# Altium integrated library TI Power Management Linear Regulator Single Channel LDO (400-7500mA).IntLib: 1408 symbols (part 14 of 60)
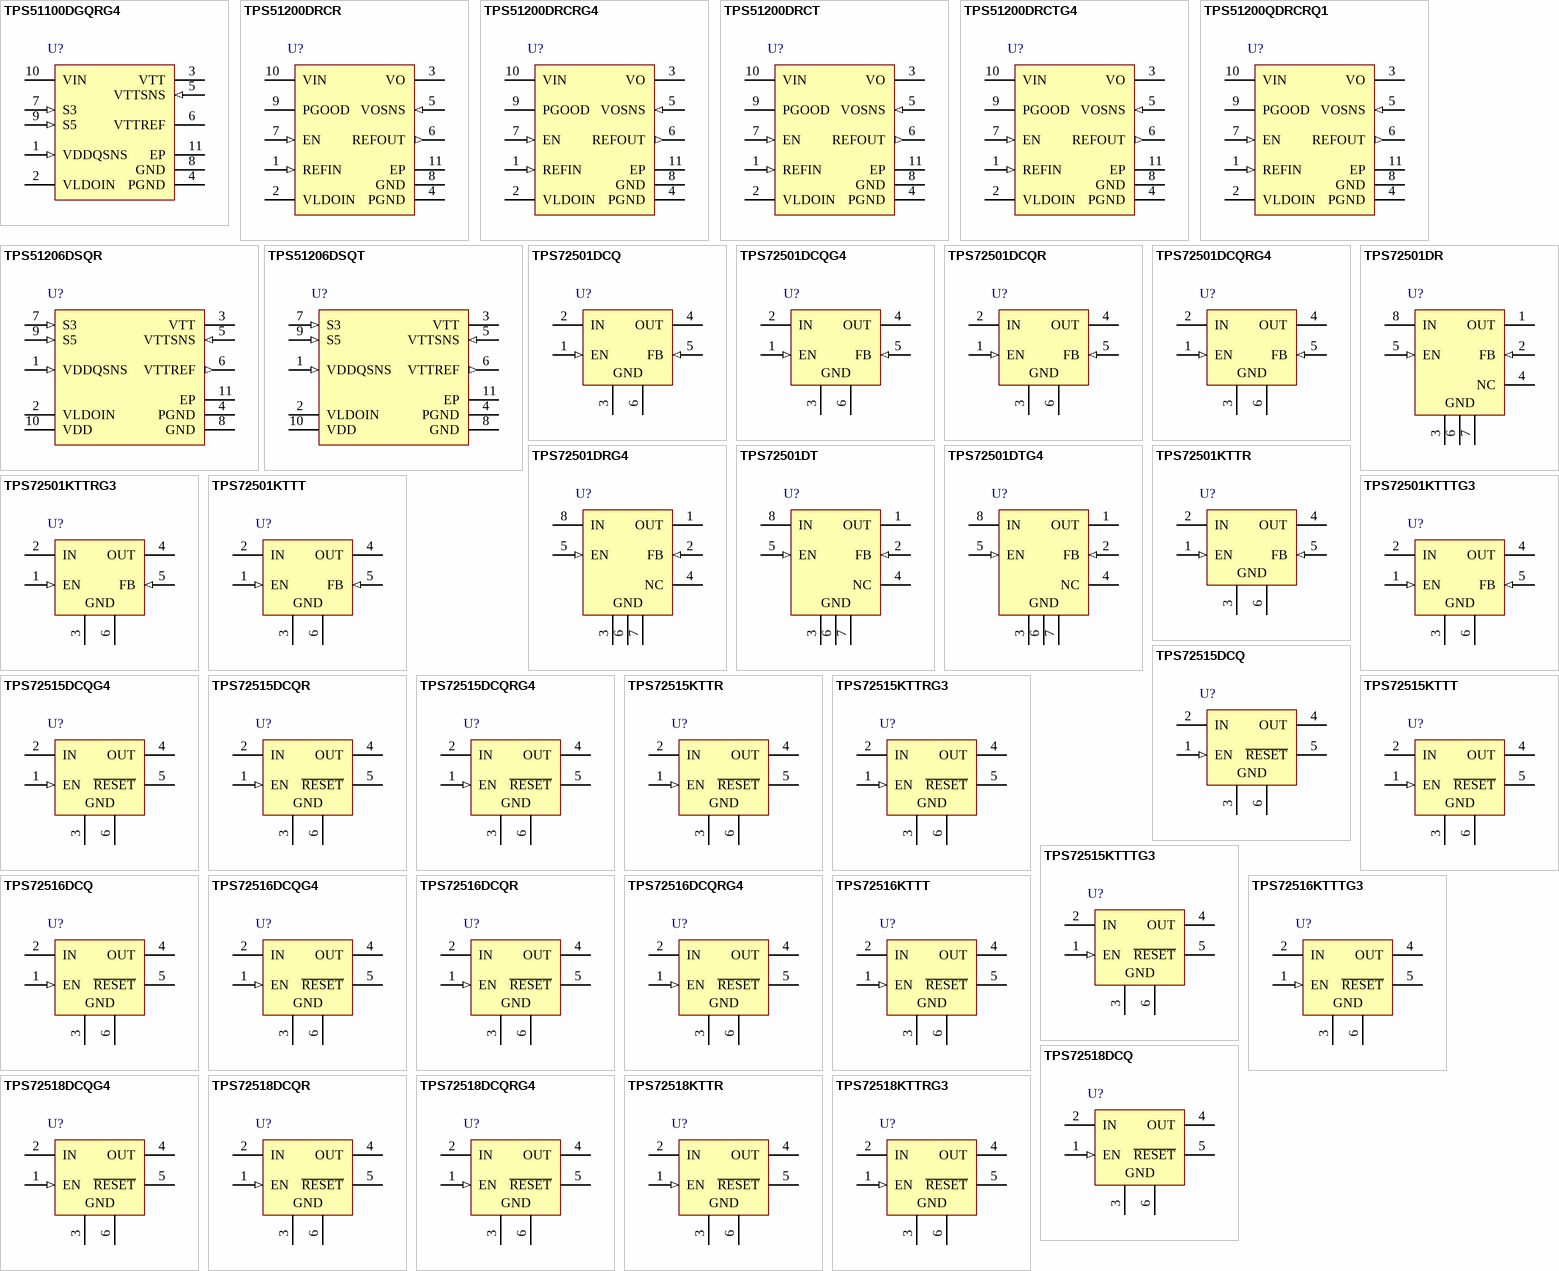
[diagram p63: symbols TPS51100DGQRG4 to TPS72518KTTRG3]

## TPS51200DRCTG4
designator U?
Single Output LDO, 3 A, 2.375 to 3.5 V Input, with DDR Termination, 10-pin SON (DRC), -40 to 85 degC, Green (RoHS & no Sb/Br); Manufacturer: Texas Instruments; PartNumber: TPS51200DRCTG4; Iout(Max)(A): 3; Iq(Typ)(mA): 0.5; Power Good: TRUE; Rating: Catalog; SubFamily: Single Channel LDO; Vin(Max)(V): 3.5; Vin(Min)(V): 2.3; DatasheetVersion: SLUS812; PackageVersion: 4204102-3/L; PackageReference: DRC10-2400X1650TP; PackageDescription: 10-Pin Plastic Small Outline, Body 3 x 3 mm, Pitch 0.5 mm; Supplier 1: Digi-Key; Supplier Part Number 1: TPS51200DRCTG4-ND; Supplier 2: Newark; Supplier Part Number 2: 03P5192; Supplier 3: Mouser; Supplier Part Number 3: 595-TPS51200DRCTG4; Eco-Plan: Green (RoHS & no Sb/Br); Mounting Technology: Surface Mount; ComponentLink1Description: Manufacturer URL; ComponentLink1URL: http://www.ti.com/; ComponentLink2Description: Datasheet; ComponentLink2URL: http://www.ti.com/general/docs/lit/getliterature.tsp?genericPartNumber=TPS51200&fileType=pdf; ComponentLink3Description: Package Specification; ComponentLink3URL: http://www.ti.com/litv/pdf/mpds117k; ComponentLink4Description: URL Link1; ComponentLink4URL: Samples URL:http://www.ti.com/product/tps51200#samples
footprint TI-DRC10-2400X1650TP_V (SON, 10-Leads, Body 3x3mm, Pitch 0.5mm, Thermal Pad 3x1.65mm)
pins: 1 REFIN (in) "Reference input", 2 VLDOIN (power) "Supply voltage for the LDO", 3 VO (power) "Power output for the LDO", 4 PGND (power) "Power ground output for the LDO", 5 VOSNS (in) "Voltage sense output for the LDO. Connect to positive terminal of the output capacitor or the load.", 6 REFOUT (out) "Reference output. Connect to GND through 0.1-uF ceramic capacitor.", 7 EN (in) "For DDR VTT application, connect EN to SLP_S3. For any other application(s), use EN as the ON/OFF function.", 8 GND (power) "Ground.Signal ground. Connect to negative terminal of the output capacitor.", 9 PGOOD (oc) "PGOOD output. Indicates regulation.", 10 VIN (power) "2.5-V or 3.3-V power supply A ceramic decoupling capacitor with a value between 1-uF and 4.7-uF is required.", 11 EP (power) "Exposed thermal pad"

## TPS51200QDRCRQ1
designator U?
Single Output Automotive LDO, 3 A, 2.3 to 3.5 V Input, with DDR Termination, 10-pin SON (DRC), -40 to 125 degC, Green (RoHS & no Sb/Br); Manufacturer: Texas Instruments; PartNumber: TPS51200QDRCRQ1; Iout(Max)(A): 3; Iq(Typ)(mA): 0.5; Power Good: TRUE; SubFamily: Single Channel LDO; Vin(Max)(V): 3.5; Vin(Min)(V): 2.3; DatasheetVersion: SLUS984A; PackageVersion: 4204102-3/L; PackageReference: DRC10-2400X1650TP; PackageDescription: 10-Pin Plastic Small Outline, Body 3 x 3 mm, Pitch 0.5 mm; Supplier 1: Digi-Key; Supplier Part Number 1: 296-25411-2-ND; Supplier 2: Digi-Key; Supplier Part Number 2: 296-25411-1-ND; Supplier 3: Digi-Key; Supplier Part Number 3: 296-25411-6-ND; Supplier 4: Farnell; Supplier Part Number 4: 2127110; Supplier 5: Newark; Supplier Part Number 5: 94T5095; Supplier 6: Newark; Supplier Part Number 6: 55R7572; Supplier 7: Mouser; Supplier Part Number 7: 595-TPS51200QDRCRQ1; Eco-Plan: Green (RoHS & no Sb/Br); Rating: Automotive; Mounting Technology: Surface Mount; ComponentLink1Description: Manufacturer URL; ComponentLink1URL: http://www.ti.com/; ComponentLink2Description: Datasheet; ComponentLink2URL: http://www.ti.com/general/docs/lit/getliterature.tsp?genericPartNumber=TPS51200-Q1&fileType=pdf; ComponentLink3Description: Package Specification; ComponentLink3URL: http://www.ti.com/litv/pdf/mpds117k; ComponentLink4Description: URL Link1; ComponentLink4URL: Samples URL:http://www.ti.com/product/tps51200-q1#samples
footprint TI-DRC10-2400X1650TP_V (SON, 10-Leads, Body 3x3mm, Pitch 0.5mm, Thermal Pad 3x1.65mm)
pins: 1 REFIN (in) "Reference input", 2 VLDOIN (power) "Supply voltage for the LDO", 3 VO (power) "Power output for the LDO", 4 PGND (power) "Power ground output for the LDO", 5 VOSNS (in) "Voltage sense output for the LDO. Connect to positive terminal of the output capacitor or the load.", 6 REFOUT (out) "Reference output. Connect to GND through 0.1-uF ceramic capacitor.", 7 EN (in) "For DDR VTT application, connect EN to SLP_S3. For any other application(s), use EN as the ON/OFF function.", 8 GND (power) "Ground.Signal ground. Connect to negative terminal of the output capacitor.", 9 PGOOD (hiz) "PGOOD output. Indicates regulation.", 10 VIN (power) "2.5-V or 3.3-V power supply A ceramic decoupling capacitor with a value between 1-uF and 4.7-uF is required.", 11 EP (power) "Exposed thermal pad"

## TPS51206DSQR
designator U?
Single Output LDO, 2 A, with VTTREF Buffered Reference for DDR2, DDR3, DDR3L, 10-pin SON (DSQ), -40 to 85 degC, Green (RoHS & no Sb/Br); Manufacturer: Texas Instruments; PartNumber: TPS51206DSQR; Iout(Max)(A): 2; Rating: Catalog; SubFamily: Single Channel LDO; DatasheetVersion: SLUSAH1; PackageVersion: 4209243/B; PackageReference: DSQ10-1500X900TP; PackageDescription: 10-Pin Plastic Small Outline, Body 2 X 2 mm, Pitch 0.4 mm; Supplier 1: Digi-Key; Supplier Part Number 1: 296-28767-2-ND; Supplier 2: Digi-Key; Supplier Part Number 2: 296-28767-1-ND; Supplier 3: Digi-Key; Supplier Part Number 3: 296-28767-6-ND; Supplier 4: Newark; Supplier Part Number 4: 48T4679; Supplier 5: Mouser; Supplier Part Number 5: 595-TPS51206DSQR; Eco-Plan: Green (RoHS & no Sb/Br); Mounting Technology: Surface Mount; ComponentLink1Description: Manufacturer URL; ComponentLink1URL: http://www.ti.com/; ComponentLink2Description: Datasheet; ComponentLink2URL: http://www.ti.com/general/docs/lit/getliterature.tsp?genericPartNumber=TPS51206&fileType=pdf; ComponentLink3Description: Package Specification; ComponentLink3URL: http://www.ti.com/litv/pdf/mpdi002c; ComponentLink4Description: URL Link1; ComponentLink4URL: Samples URL:http://www.ti.com/product/tps51206#samples
footprint TI-DSQ10-1500X900TP_V (SON, 10-Leads, Body 2x2mm, Pitch 0.4mm, Thermal Pad 1.5x0.9mm)
pins: 1 VDDQSNS (in) "VDDQ sense input, reference input for VTTREF", 2 VLDOIN (power) "Power supply input for VTT/ VTTREF", 3 VTT (power) "Power output for VTT LDO, need to connect 10-uF or greater MLCC for stability", 4 PGND (power) "Power GND for VTT LDO", 5 VTTSNS (in) "VTT LDO voltage sense input", 6 VTTREF (out) "VTTREF buffered reference output. Need to connect 0.22-uF or greater MLCC for stability", 7 S3 (in) "S3 signal input", 8 GND (power) "Signal ground", 9 S5 (in) "S5 signal input", 10 VDD (power) "Device power supply input (3.3 V or 5 V)", 11 EP (power) "Solder to the ground plane for increased thremal performance."

## TPS51206DSQT
designator U?
Single Output LDO, 2 A, with VTTREF Buffered Reference for DDR2, DDR3, DDR3L, 10-pin SON (DSQ), -40 to 85 degC, Green (RoHS & no Sb/Br); Manufacturer: Texas Instruments; PartNumber: TPS51206DSQT; Iout(Max)(A): 2; Rating: Catalog; SubFamily: Single Channel LDO; DatasheetVersion: SLUSAH1; PackageVersion: 4209243/B; PackageReference: DSQ10-1500X900TP; PackageDescription: 10-Pin Plastic Small Outline, Body 2 X 2 mm, Pitch 0.4 mm; Supplier 1: Digi-Key; Supplier Part Number 1: 296-32490-2-ND; Supplier 2: Digi-Key; Supplier Part Number 2: 296-32490-1-ND; Supplier 3: Digi-Key; Supplier Part Number 3: 296-32490-6-ND; Supplier 4: Newark; Supplier Part Number 4: 48T4680; Supplier 5: Mouser; Supplier Part Number 5: 595-TPS51206DSQT; Eco-Plan: Green (RoHS & no Sb/Br); Mounting Technology: Surface Mount; ComponentLink1Description: Manufacturer URL; ComponentLink1URL: http://www.ti.com/; ComponentLink2Description: Datasheet; ComponentLink2URL: http://www.ti.com/general/docs/lit/getliterature.tsp?genericPartNumber=TPS51206&fileType=pdf; ComponentLink3Description: Package Specification; ComponentLink3URL: http://www.ti.com/litv/pdf/mpdi002c; ComponentLink4Description: URL Link1; ComponentLink4URL: Samples URL:http://www.ti.com/product/tps51206#samples
footprint TI-DSQ10-1500X900TP_V (SON, 10-Leads, Body 2x2mm, Pitch 0.4mm, Thermal Pad 1.5x0.9mm)
pins: 1 VDDQSNS (in) "VDDQ sense input, reference input for VTTREF", 2 VLDOIN (power) "Power supply input for VTT/ VTTREF", 3 VTT (power) "Power output for VTT LDO, need to connect 10-uF or greater MLCC for stability", 4 PGND (power) "Power GND for VTT LDO", 5 VTTSNS (in) "VTT LDO voltage sense input", 6 VTTREF (out) "VTTREF buffered reference output. Need to connect 0.22-uF or greater MLCC for stability", 7 S3 (in) "S3 signal input", 8 GND (power) "Signal ground", 9 S5 (in) "S5 signal input", 10 VDD (power) "Device power supply input (3.3 V or 5 V)", 11 EP (power) "Solder to the ground plane for increased thremal performance."

## TPS72501DCQ
designator U?
Single Output Any Cap LDO, 1 A, Adjustable 1.2 to 5 V Output, 1.8 to 6 V Input, with Integrated SVS, 6-pin SOT-223 (DCQ), -40 to 125 degC, Green (RoHS & no Sb/Br); Manufacturer: Texas Instruments; PartNumber: TPS72501DCQ; Accuracy(%): 2; Iout(Max)(A): 1; Iq(Typ)(mA): 0.07; SubFamily: Single Channel LDO; Vdo(Typ)(mV): 170; Vin(Max)(V): 6; Vin(Min)(V): 1.8; Vout Adj(Max)(V): 5.5; Vout Adj(Min)(V): 1.22; DatasheetVersion: SLVS341E; PackageVersion: 4202109/D; PackageReference: DCQ6; PackageDescription: 6-Pin Plastic Small Outline, Body 3.5 x 6.5 mm, Pitch 1.27 mm; Supplier 1: Digi-Key; Supplier Part Number 1: 296-27050-5-ND; Supplier 2: Farnell; Supplier Part Number 2: 1470475; Supplier 3: Newark; Supplier Part Number 3: 75K1626; Supplier 4: Mouser; Supplier Part Number 4: 595-TPS72501DCQ; Eco-Plan: Green (RoHS & no Sb/Br); Mounting Technology: Surface Mount; ComponentLink1Description: Manufacturer URL; ComponentLink1URL: http://www.ti.com/; ComponentLink2Description: Datasheet; ComponentLink2URL: http://www.ti.com/general/docs/lit/getliterature.tsp?genericPartNumber=TPS72501&fileType=pdf; ComponentLink3Description: Package Specification; ComponentLink3URL: http://www.ti.com/litv/pdf/mpds098c
footprint TI-DCQ6_N (SOT223, 6-Leads, Body 6.5x3.5mm, Pitch 1.27mm, IPC Medium Density)
footprint TI-DCQ6_L (SOT223, 6-Leads, Body 6.5x3.5mm, Pitch 1.27mm, IPC High Density)
footprint TI-DCQ6_M (SOT223, 6-Leads, Body 6.5x3.5mm, Pitch 1.27mm, IPC Low Density)
pins: 1 EN (in) "The EN terminal is an input that enables or shuts down the device. When EN is a logic high, the device is enabled. When the device is a logic low, the device is in shutdown mode.", 2 IN (power) "Unregulated input to the device.", 3 GND (power) "Regulator ground", 4 OUT (power) "Regulator output", 5 FB (in) "Feedback input voltage for the adjustable device.", 6 GND (power) "Regulator ground"

## TPS72501DCQG4
designator U?
Single Output Any Cap LDO, 1 A, Adjustable 1.2 to 5 V Output, 1.8 to 6 V Input, with Integrated SVS, 6-pin SOT-223 (DCQ), -40 to 125 degC, Green (RoHS & no Sb/Br); Manufacturer: Texas Instruments; PartNumber: TPS72501DCQG4; Accuracy(%): 2; Iout(Max)(A): 1; Iq(Typ)(mA): 0.07; SubFamily: Single Channel LDO; Vdo(Typ)(mV): 170; Vin(Max)(V): 6; Vin(Min)(V): 1.8; Vout Adj(Max)(V): 5.5; Vout Adj(Min)(V): 1.22; DatasheetVersion: SLVS341E; PackageVersion: 4202109/D; PackageReference: DCQ6; PackageDescription: 6-Pin Plastic Small Outline, Body 3.5 x 6.5 mm, Pitch 1.27 mm; Supplier 1: Digi-Key; Supplier Part Number 1: TPS72501DCQG4-ND; Supplier 2: Farnell; Supplier Part Number 2: 1207338; Supplier 3: Newark; Supplier Part Number 3: 62M0767; Supplier 4: Mouser; Supplier Part Number 4: 595-TPS72501DCQG4; Eco-Plan: Green (RoHS & no Sb/Br); Mounting Technology: Surface Mount; ComponentLink1Description: Manufacturer URL; ComponentLink1URL: http://www.ti.com/; ComponentLink2Description: Datasheet; ComponentLink2URL: http://www.ti.com/general/docs/lit/getliterature.tsp?genericPartNumber=TPS72501&fileType=pdf; ComponentLink3Description: Package Specification; ComponentLink3URL: http://www.ti.com/litv/pdf/mpds098c
footprint TI-DCQ6_N (SOT223, 6-Leads, Body 6.5x3.5mm, Pitch 1.27mm, IPC Medium Density)
footprint TI-DCQ6_L (SOT223, 6-Leads, Body 6.5x3.5mm, Pitch 1.27mm, IPC High Density)
footprint TI-DCQ6_M (SOT223, 6-Leads, Body 6.5x3.5mm, Pitch 1.27mm, IPC Low Density)
pins: 1 EN (in) "The EN terminal is an input that enables or shuts down the device. When EN is a logic high, the device is enabled. When the device is a logic low, the device is in shutdown mode.", 2 IN (power) "Unregulated input to the device.", 3 GND (power) "Regulator ground", 4 OUT (power) "Regulator output", 5 FB (in) "Feedback input voltage for the adjustable device.", 6 GND (power) "Regulator ground"

## TPS72501DCQR
designator U?
Single Output Any Cap LDO, 1 A, Adjustable 1.2 to 5 V Output, 1.8 to 6 V Input, with Integrated SVS, 6-pin SOT-223 (DCQ), -40 to 125 degC, Green (RoHS & no Sb/Br); Manufacturer: Texas Instruments; PartNumber: TPS72501DCQR; Accuracy(%): 2; Iout(Max)(A): 1; Iq(Typ)(mA): 0.07; SubFamily: Single Channel LDO; Vdo(Typ)(mV): 170; Vin(Max)(V): 6; Vin(Min)(V): 1.8; Vout Adj(Max)(V): 5.5; Vout Adj(Min)(V): 1.22; DatasheetVersion: SLVS341E; PackageVersion: 4202109/D; PackageReference: DCQ6; PackageDescription: 6-Pin Plastic Small Outline, Body 3.5 x 6.5 mm, Pitch 1.27 mm; Supplier 1: Digi-Key; Supplier Part Number 1: 296-13524-2-ND; Supplier 2: Digi-Key; Supplier Part Number 2: 296-13524-1-ND; Supplier 3: Digi-Key; Supplier Part Number 3: 296-13524-6-ND; Supplier 4: Newark; Supplier Part Number 4: 77C0843; Supplier 5: Mouser; Supplier Part Number 5: 595-TPS72501DCQR; Eco-Plan: Green (RoHS & no Sb/Br); Mounting Technology: Surface Mount; ComponentLink1Description: Manufacturer URL; ComponentLink1URL: http://www.ti.com/; ComponentLink2Description: Datasheet; ComponentLink2URL: http://www.ti.com/general/docs/lit/getliterature.tsp?genericPartNumber=TPS72501&fileType=pdf; ComponentLink3Description: Package Specification; ComponentLink3URL: http://www.ti.com/litv/pdf/mpds098c
footprint TI-DCQ6_N (SOT223, 6-Leads, Body 6.5x3.5mm, Pitch 1.27mm, IPC Medium Density)
footprint TI-DCQ6_L (SOT223, 6-Leads, Body 6.5x3.5mm, Pitch 1.27mm, IPC High Density)
footprint TI-DCQ6_M (SOT223, 6-Leads, Body 6.5x3.5mm, Pitch 1.27mm, IPC Low Density)
pins: 1 EN (in) "The EN terminal is an input that enables or shuts down the device. When EN is a logic high, the device is enabled. When the device is a logic low, the device is in shutdown mode.", 2 IN (power) "Unregulated input to the device.", 3 GND (power) "Regulator ground", 4 OUT (power) "Regulator output", 5 FB (in) "Feedback input voltage for the adjustable device.", 6 GND (power) "Regulator ground"

## TPS72501DCQRG4
designator U?
Single Output Any Cap LDO, 1 A, Adjustable 1.2 to 5 V Output, 1.8 to 6 V Input, with Integrated SVS, 6-pin SOT-223 (DCQ), -40 to 125 degC, Green (RoHS & no Sb/Br); Manufacturer: Texas Instruments; PartNumber: TPS72501DCQRG4; Accuracy(%): 2; Iout(Max)(A): 1; Iq(Typ)(mA): 0.07; SubFamily: Single Channel LDO; Vdo(Typ)(mV): 170; Vin(Max)(V): 6; Vin(Min)(V): 1.8; Vout Adj(Max)(V): 5.5; Vout Adj(Min)(V): 1.22; DatasheetVersion: SLVS341E; PackageVersion: 4202109/D; PackageReference: DCQ6; PackageDescription: 6-Pin Plastic Small Outline, Body 3.5 x 6.5 mm, Pitch 1.27 mm; Supplier 1: Digi-Key; Supplier Part Number 1: TPS72501DCQRG4-ND; Supplier 2: Newark; Supplier Part Number 2: 67K8660; Supplier 3: Mouser; Supplier Part Number 3: 595-TPS72501DCQRG4; Eco-Plan: Green (RoHS & no Sb/Br); Mounting Technology: Surface Mount; ComponentLink1Description: Manufacturer URL; ComponentLink1URL: http://www.ti.com/; ComponentLink2Description: Datasheet; ComponentLink2URL: http://www.ti.com/general/docs/lit/getliterature.tsp?genericPartNumber=TPS72501&fileType=pdf; ComponentLink3Description: Package Specification; ComponentLink3URL: http://www.ti.com/litv/pdf/mpds098c
footprint TI-DCQ6_N (SOT223, 6-Leads, Body 6.5x3.5mm, Pitch 1.27mm, IPC Medium Density)
footprint TI-DCQ6_L (SOT223, 6-Leads, Body 6.5x3.5mm, Pitch 1.27mm, IPC High Density)
footprint TI-DCQ6_M (SOT223, 6-Leads, Body 6.5x3.5mm, Pitch 1.27mm, IPC Low Density)
pins: 1 EN (in) "The EN terminal is an input that enables or shuts down the device. When EN is a logic high, the device is enabled. When the device is a logic low, the device is in shutdown mode.", 2 IN (power) "Unregulated input to the device.", 3 GND (power) "Regulator ground", 4 OUT (power) "Regulator output", 5 FB (in) "Feedback input voltage for the adjustable device.", 6 GND (power) "Regulator ground"

## TPS72501DR
designator U?
Single Output Any Cap LDO, 1 A, Adjustable 1.2 to 5 V Output, 1.8 to 6 V Input, with Integrated SVS, 8-pin SOIC (D), -40 to 125 degC, Green (RoHS & no Sb/Br); Manufacturer: Texas Instruments; PartNumber: TPS72501DR; Accuracy(%): 2; Iout(Max)(A): 1; Iq(Typ)(mA): 0.07; SubFamily: Single Channel LDO; Vdo(Typ)(mV): 170; Vin(Max)(V): 6; Vin(Min)(V): 1.8; Vout Adj(Max)(V): 5.5; Vout Adj(Min)(V): 1.22; DatasheetVersion: SLVS341E; PackageVersion: 4040047-3/M; PackageReference: D8; PackageDescription: 8-Pin Plastic Small Outline, Body 4.9 x 3.9 mm, Pitch 1.27 mm; Supplier 1: Digi-Key; Supplier Part Number 1: TPS72501DR-ND; Supplier 2: Mouser; Supplier Part Number 2: 595-TPS72501DR; Eco-Plan: Green (RoHS & no Sb/Br); Mounting Technology: Surface Mount; Code_JEDEC: MS-012; ComponentLink1Description: Manufacturer URL; ComponentLink1URL: http://www.ti.com/; ComponentLink2Description: Datasheet; ComponentLink2URL: http://www.ti.com/general/docs/lit/getliterature.tsp?genericPartNumber=TPS72501&fileType=pdf; ComponentLink3Description: Package Specification; ComponentLink3URL: http://www.ti.com/litv/pdf/msoi002j
footprint TI-D8_N (SOIC, 8-Leads, Body 4.9x3.9mm, Pitch 1.27mm, IPC Medium Density)
footprint TI-D8_L (SOIC, 8-Leads, Body 4.9x3.9mm, Pitch 1.27mm, IPC High Density)
footprint TI-D8_M (SOIC, 8-Leads, Body 4.9x3.9mm, Pitch 1.27mm, IPC Low Density)
pins: 1 OUT (power) "Regulated output voltage", 2 FB (in) "Feedback", 3 GND (power) "Ground", 4 NC "No connection", 5 EN (in) "Enable input", 6 GND (power) "Ground", 7 GND (power) "Ground", 8 IN (power) "Input supply voltage"

## TPS72501DRG4
designator U?
Single Output Any Cap LDO, 1 A, Adjustable 1.2 to 5 V Output, 1.8 to 6 V Input, with Integrated SVS, 8-pin SOIC (D), -40 to 125 degC, Green (RoHS & no Sb/Br); Manufacturer: Texas Instruments; PartNumber: TPS72501DRG4; Accuracy(%): 2; Iout(Max)(A): 1; Iq(Typ)(mA): 0.07; SubFamily: Single Channel LDO; Vdo(Typ)(mV): 170; Vin(Max)(V): 6; Vin(Min)(V): 1.8; Vout Adj(Max)(V): 5.5; Vout Adj(Min)(V): 1.22; DatasheetVersion: SLVS341E; PackageVersion: 4040047-3/M; PackageReference: D8; PackageDescription: 8-Pin Plastic Small Outline, Body 4.9 x 3.9 mm, Pitch 1.27 mm; Supplier 1: Digi-Key; Supplier Part Number 1: TPS72501DRG4-ND; Supplier 2: Mouser; Supplier Part Number 2: 595-TPS72501DRG4; Eco-Plan: Green (RoHS & no Sb/Br); Mounting Technology: Surface Mount; Code_JEDEC: MS-012; ComponentLink1Description: Manufacturer URL; ComponentLink1URL: http://www.ti.com/; ComponentLink2Description: Datasheet; ComponentLink2URL: http://www.ti.com/general/docs/lit/getliterature.tsp?genericPartNumber=TPS72501&fileType=pdf; ComponentLink3Description: Package Specification; ComponentLink3URL: http://www.ti.com/litv/pdf/msoi002j
footprint TI-D8_N (SOIC, 8-Leads, Body 4.9x3.9mm, Pitch 1.27mm, IPC Medium Density)
footprint TI-D8_L (SOIC, 8-Leads, Body 4.9x3.9mm, Pitch 1.27mm, IPC High Density)
footprint TI-D8_M (SOIC, 8-Leads, Body 4.9x3.9mm, Pitch 1.27mm, IPC Low Density)
pins: 1 OUT (power) "Regulated output voltage", 2 FB (in) "Feedback", 3 GND (power) "Ground", 4 NC "No connection", 5 EN (in) "Enable input", 6 GND (power) "Ground", 7 GND (power) "Ground", 8 IN (power) "Input supply voltage"

## TPS72501DT
designator U?
Single Output Any Cap LDO, 1 A, Adjustable 1.2 to 5 V Output, 1.8 to 6 V Input, with Integrated SVS, 8-pin SOIC (D), -40 to 125 degC, Green (RoHS & no Sb/Br); Manufacturer: Texas Instruments; PartNumber: TPS72501DT; Accuracy(%): 2; Iout(Max)(A): 1; Iq(Typ)(mA): 0.07; SubFamily: Single Channel LDO; Vdo(Typ)(mV): 170; Vin(Max)(V): 6; Vin(Min)(V): 1.8; Vout Adj(Max)(V): 5.5; Vout Adj(Min)(V): 1.22; DatasheetVersion: SLVS341E; PackageVersion: 4040047-3/M; PackageReference: D8; PackageDescription: 8-Pin Plastic Small Outline, Body 4.9 x 3.9 mm, Pitch 1.27 mm; Supplier 1: Digi-Key; Supplier Part Number 1: 296-13805-2-ND; Supplier 2: Digi-Key; Supplier Part Number 2: 296-13805-1-ND; Supplier 3: Digi-Key; Supplier Part Number 3: 296-13805-6-ND; Supplier 4: Newark; Supplier Part Number 4: 02E7230; Supplier 5: Mouser; Supplier Part Number 5: 595-TPS72501DT; Eco-Plan: Green (RoHS & no Sb/Br); Mounting Technology: Surface Mount; Code_JEDEC: MS-012; ComponentLink1Description: Manufacturer URL; ComponentLink1URL: http://www.ti.com/; ComponentLink2Description: Datasheet; ComponentLink2URL: http://www.ti.com/general/docs/lit/getliterature.tsp?genericPartNumber=TPS72501&fileType=pdf; ComponentLink3Description: Package Specification; ComponentLink3URL: http://www.ti.com/litv/pdf/msoi002j
footprint TI-D8_N (SOIC, 8-Leads, Body 4.9x3.9mm, Pitch 1.27mm, IPC Medium Density)
footprint TI-D8_L (SOIC, 8-Leads, Body 4.9x3.9mm, Pitch 1.27mm, IPC High Density)
footprint TI-D8_M (SOIC, 8-Leads, Body 4.9x3.9mm, Pitch 1.27mm, IPC Low Density)
pins: 1 OUT (power) "Regulated output voltage", 2 FB (in) "Feedback", 3 GND (power) "Ground", 4 NC "No connection", 5 EN (in) "Enable input", 6 GND (power) "Ground", 7 GND (power) "Ground", 8 IN (power) "Input supply voltage"

## TPS72501DTG4
designator U?
Single Output Any Cap LDO, 1 A, Adjustable 1.2 to 5 V Output, 1.8 to 6 V Input, with Integrated SVS, 8-pin SOIC (D), -40 to 125 degC, Green (RoHS & no Sb/Br); Manufacturer: Texas Instruments; PartNumber: TPS72501DTG4; Accuracy(%): 2; Iout(Max)(A): 1; Iq(Typ)(mA): 0.07; SubFamily: Single Channel LDO; Vdo(Typ)(mV): 170; Vin(Max)(V): 6; Vin(Min)(V): 1.8; Vout Adj(Max)(V): 5.5; Vout Adj(Min)(V): 1.22; DatasheetVersion: SLVS341E; PackageVersion: 4040047-3/M; PackageReference: D8; PackageDescription: 8-Pin Plastic Small Outline, Body 4.9 x 3.9 mm, Pitch 1.27 mm; Supplier 1: Digi-Key; Supplier Part Number 1: TPS72501DTG4-ND; Supplier 2: Mouser; Supplier Part Number 2: 595-TPS72501DTG4; Eco-Plan: Green (RoHS & no Sb/Br); Mounting Technology: Surface Mount; Code_JEDEC: MS-012; ComponentLink1Description: Manufacturer URL; ComponentLink1URL: http://www.ti.com/; ComponentLink2Description: Datasheet; ComponentLink2URL: http://www.ti.com/general/docs/lit/getliterature.tsp?genericPartNumber=TPS72501&fileType=pdf; ComponentLink3Description: Package Specification; ComponentLink3URL: http://www.ti.com/litv/pdf/msoi002j
footprint TI-D8_N (SOIC, 8-Leads, Body 4.9x3.9mm, Pitch 1.27mm, IPC Medium Density)
footprint TI-D8_L (SOIC, 8-Leads, Body 4.9x3.9mm, Pitch 1.27mm, IPC High Density)
footprint TI-D8_M (SOIC, 8-Leads, Body 4.9x3.9mm, Pitch 1.27mm, IPC Low Density)
pins: 1 OUT (power) "Regulated output voltage", 2 FB (in) "Feedback", 3 GND (power) "Ground", 4 NC "No connection", 5 EN (in) "Enable input", 6 GND (power) "Ground", 7 GND (power) "Ground", 8 IN (power) "Input supply voltage"

## TPS72501KTTR
designator U?
Single Output Any Cap LDO, 1 A, Adjustable 1.2 to 5 V Output, 1.8 to 6 V Input, with Integrated SVS, 5-pin DDPAK (KTT), -40 to 125 degC, Green (RoHS & no Sb/Br); Manufacturer: Texas Instruments; PartNumber: TPS72501KTTR; Accuracy(%): 2; Iout(Max)(A): 1; Iq(Typ)(mA): 0.07; SubFamily: Single Channel LDO; Vdo(Typ)(mV): 170; Vin(Max)(V): 6; Vin(Min)(V): 1.8; Vout Adj(Max)(V): 5.5; Vout Adj(Min)(V): 1.22; DatasheetVersion: SLVS341E; PackageVersion: 4200577-3/F; PackageReference: KTT5; PackageDescription: 3-Pin Plastic Flange Mount, Body 10.16 x 10.34 mm, Pitch 1.7 mm; Supplier 1: Digi-Key; Supplier Part Number 1: 296-22877-2-ND; Supplier 2: Digi-Key; Supplier Part Number 2: 296-22877-1-ND; Supplier 3: Digi-Key; Supplier Part Number 3: 296-22877-6-ND; Supplier 4: Farnell; Supplier Part Number 4: 1576484; Supplier 5: Newark; Supplier Part Number 5: 87H2934; Supplier 6: Mouser; Supplier Part Number 6: 595-TPS72501KTTR; Eco-Plan: Green (RoHS & no Sb/Br); Mounting Technology: Surface Mount; Code_JEDEC: TO-263; ComponentLink1Description: Manufacturer URL; ComponentLink1URL: http://www.ti.com/; ComponentLink2Description: Datasheet; ComponentLink2URL: http://www.ti.com/general/docs/lit/getliterature.tsp?genericPartNumber=TPS72501&fileType=pdf; ComponentLink3Description: Package Specification; ComponentLink3URL: http://www.ti.com/litv/pdf/mpsf007e
footprint TI-KTT5_N (DPAK, 5-Leads, Body 10.16x8.925mm, Pitch 1.7mm, IPC Medium Density)
footprint TI-KTT5_L (DPAK, 5-Leads, Body 10.16x8.925mm, Pitch 1.7mm, IPC High Density)
footprint TI-KTT5_M (DPAK, 5-Leads, Body 10.16x8.925mm, Pitch 1.7mm, IPC Low Density)
pins: 1 EN (in) "The EN terminal is an input that enables or shuts down the device. When EN is a logic high, the device is enabled. When the device is a logic low, the device is in shutdown mode.", 2 IN (power) "Unregulated input to the device.", 3 GND (power) "Regulator ground", 4 OUT (power) "Regulator output", 5 FB (in) "Feedback input voltage for the adjustable device.", 6 GND (power) "Regulator ground"

## TPS72501KTTRG3
designator U?
Single Output Any Cap LDO, 1 A, Adjustable 1.2 to 5 V Output, 1.8 to 6 V Input, with Integrated SVS, 5-pin DDPAK (KTT), -40 to 125 degC, Green (RoHS & no Sb/Br); Manufacturer: Texas Instruments; PartNumber: TPS72501KTTRG3; Accuracy(%): 2; Iout(Max)(A): 1; Iq(Typ)(mA): 0.07; SubFamily: Single Channel LDO; Vdo(Typ)(mV): 170; Vin(Max)(V): 6; Vin(Min)(V): 1.8; Vout Adj(Max)(V): 5.5; Vout Adj(Min)(V): 1.22; DatasheetVersion: SLVS341E; PackageVersion: 4200577-3/F; PackageReference: KTT5; PackageDescription: 3-Pin Plastic Flange Mount, Body 10.16 x 10.34 mm, Pitch 1.7 mm; Supplier 1: Digi-Key; Supplier Part Number 1: TPS72501KTTRG3-ND; Supplier 2: Newark; Supplier Part Number 2: 24K6096; Supplier 3: Mouser; Supplier Part Number 3: 595-TPS72501KTTRG3; Eco-Plan: Green (RoHS & no Sb/Br); Mounting Technology: Surface Mount; Code_JEDEC: TO-263; ComponentLink1Description: Manufacturer URL; ComponentLink1URL: http://www.ti.com/; ComponentLink2Description: Datasheet; ComponentLink2URL: http://www.ti.com/general/docs/lit/getliterature.tsp?genericPartNumber=TPS72501&fileType=pdf; ComponentLink3Description: Package Specification; ComponentLink3URL: http://www.ti.com/litv/pdf/mpsf007e
footprint TI-KTT5_N (DPAK, 5-Leads, Body 10.16x8.925mm, Pitch 1.7mm, IPC Medium Density)
footprint TI-KTT5_L (DPAK, 5-Leads, Body 10.16x8.925mm, Pitch 1.7mm, IPC High Density)
footprint TI-KTT5_M (DPAK, 5-Leads, Body 10.16x8.925mm, Pitch 1.7mm, IPC Low Density)
pins: 1 EN (in) "The EN terminal is an input that enables or shuts down the device. When EN is a logic high, the device is enabled. When the device is a logic low, the device is in shutdown mode.", 2 IN (power) "Unregulated input to the device.", 3 GND (power) "Regulator ground", 4 OUT (power) "Regulator output", 5 FB (in) "Feedback input voltage for the adjustable device.", 6 GND (power) "Regulator ground"

## TPS72501KTTT
designator U?
Single Output Any Cap LDO, 1 A, Adjustable 1.2 to 5 V Output, 1.8 to 6 V Input, with Integrated SVS, 5-pin DDPAK (KTT), -40 to 125 degC, Green (RoHS & no Sb/Br); Manufacturer: Texas Instruments; PartNumber: TPS72501KTTT; Accuracy(%): 2; Iout(Max)(A): 1; Iq(Typ)(mA): 0.07; SubFamily: Single Channel LDO; Vdo(Typ)(mV): 170; Vin(Max)(V): 6; Vin(Min)(V): 1.8; Vout Adj(Max)(V): 5.5; Vout Adj(Min)(V): 1.22; DatasheetVersion: SLVS341E; PackageVersion: 4200577-3/F; PackageReference: KTT5; PackageDescription: 3-Pin Plastic Flange Mount, Body 10.16 x 10.34 mm, Pitch 1.7 mm; Supplier 1: Digi-Key; Supplier Part Number 1: 296-13525-2-ND; Supplier 2: Digi-Key; Supplier Part Number 2: 296-13525-1-ND; Supplier 3: Digi-Key; Supplier Part Number 3: 296-13525-6-ND; Supplier 4: Farnell; Supplier Part Number 4: 1135424; Supplier 5: Farnell; Supplier Part Number 5: 1135424RL; Supplier 6: Newark; Supplier Part Number 6: 93K0897; Supplier 7: Newark; Supplier Part Number 7: 77C0845; Supplier 8: Mouser; Supplier Part Number 8: 595-TPS72501KTTT; Eco-Plan: Green (RoHS & no Sb/Br); Mounting Technology: Surface Mount; Code_JEDEC: TO-263; ComponentLink1Description: Manufacturer URL; ComponentLink1URL: http://www.ti.com/; ComponentLink2Description: Datasheet; ComponentLink2URL: http://www.ti.com/general/docs/lit/getliterature.tsp?genericPartNumber=TPS72501&fileType=pdf; ComponentLink3Description: Package Specification; ComponentLink3URL: http://www.ti.com/litv/pdf/mpsf007e
footprint TI-KTT5_N (DPAK, 5-Leads, Body 10.16x8.925mm, Pitch 1.7mm, IPC Medium Density)
footprint TI-KTT5_L (DPAK, 5-Leads, Body 10.16x8.925mm, Pitch 1.7mm, IPC High Density)
footprint TI-KTT5_M (DPAK, 5-Leads, Body 10.16x8.925mm, Pitch 1.7mm, IPC Low Density)
pins: 1 EN (in) "The EN terminal is an input that enables or shuts down the device. When EN is a logic high, the device is enabled. When the device is a logic low, the device is in shutdown mode.", 2 IN (power) "Unregulated input to the device.", 3 GND (power) "Regulator ground", 4 OUT (power) "Regulator output", 5 FB (in) "Feedback input voltage for the adjustable device.", 6 GND (power) "Regulator ground"

## TPS72501KTTTG3
designator U?
Single Output Any Cap LDO, 1 A, Adjustable 1.2 to 5 V Output, 1.8 to 6 V Input, with Integrated SVS, 5-pin DDPAK (KTT), -40 to 125 degC, Green (RoHS & no Sb/Br); Manufacturer: Texas Instruments; PartNumber: TPS72501KTTTG3; Accuracy(%): 2; Iout(Max)(A): 1; Iq(Typ)(mA): 0.07; SubFamily: Single Channel LDO; Vdo(Typ)(mV): 170; Vin(Max)(V): 6; Vin(Min)(V): 1.8; Vout Adj(Max)(V): 5.5; Vout Adj(Min)(V): 1.22; DatasheetVersion: SLVS341E; PackageVersion: 4200577-3/F; PackageReference: KTT5; PackageDescription: 3-Pin Plastic Flange Mount, Body 10.16 x 10.34 mm, Pitch 1.7 mm; Supplier 1: Digi-Key; Supplier Part Number 1: TPS72501KTTTG3-ND; Supplier 2: Newark; Supplier Part Number 2: 34M0214; Supplier 3: Mouser; Supplier Part Number 3: 595-TPS72501KTTTG3; Eco-Plan: Green (RoHS & no Sb/Br); Mounting Technology: Surface Mount; Code_JEDEC: TO-263; ComponentLink1Description: Manufacturer URL; ComponentLink1URL: http://www.ti.com/; ComponentLink2Description: Datasheet; ComponentLink2URL: http://www.ti.com/general/docs/lit/getliterature.tsp?genericPartNumber=TPS72501&fileType=pdf; ComponentLink3Description: Package Specification; ComponentLink3URL: http://www.ti.com/litv/pdf/mpsf007e
footprint TI-KTT5_N (DPAK, 5-Leads, Body 10.16x8.925mm, Pitch 1.7mm, IPC Medium Density)
footprint TI-KTT5_L (DPAK, 5-Leads, Body 10.16x8.925mm, Pitch 1.7mm, IPC High Density)
footprint TI-KTT5_M (DPAK, 5-Leads, Body 10.16x8.925mm, Pitch 1.7mm, IPC Low Density)
pins: 1 EN (in) "The EN terminal is an input that enables or shuts down the device. When EN is a logic high, the device is enabled. When the device is a logic low, the device is in shutdown mode.", 2 IN (power) "Unregulated input to the device.", 3 GND (power) "Regulator ground", 4 OUT (power) "Regulator output", 5 FB (in) "Feedback input voltage for the adjustable device.", 6 GND (power) "Regulator ground"

## TPS72515DCQ
designator U?
Single Output Any Cap LDO, 1 A, Fixed 1.5 V Output, 1.8 to 6 V Input, with Integrated SVS, 6-pin SOT-223 (DCQ), -40 to 125 degC, Green (RoHS & no Sb/Br); Manufacturer: Texas Instruments; PartNumber: TPS72515DCQ; Accuracy(%): 2; Fixed Output Options(V): 1.5; Iout(Max)(A): 1; Iq(Typ)(mA): 0.07; SubFamily: Single Channel LDO; Vdo(Typ)(mV): 170; Vin(Max)(V): 6; Vin(Min)(V): 1.8; DatasheetVersion: SLVS341E; PackageVersion: 4202109/D; PackageReference: DCQ6; PackageDescription: 6-Pin Plastic Small Outline, Body 3.5 x 6.5 mm, Pitch 1.27 mm; Supplier 1: Digi-Key; Supplier Part Number 1: 296-27051-5-ND; Supplier 2: Newark; Supplier Part Number 2: 77C0846; Supplier 3: Mouser; Supplier Part Number 3: 595-TPS72515DCQ; Eco-Plan: Green (RoHS & no Sb/Br); Vout Adj(Max)(V): 1.5; Vout Adj(Min)(V): 1.5; Mounting Technology: Surface Mount; ComponentLink1Description: Manufacturer URL; ComponentLink1URL: http://www.ti.com/; ComponentLink2Description: Datasheet; ComponentLink2URL: http://www.ti.com/general/docs/lit/getliterature.tsp?genericPartNumber=TPS72515&fileType=pdf; ComponentLink3Description: Package Specification; ComponentLink3URL: http://www.ti.com/litv/pdf/mpds098c
footprint TI-DCQ6_N (SOT223, 6-Leads, Body 6.5x3.5mm, Pitch 1.27mm, IPC Medium Density)
footprint TI-DCQ6_L (SOT223, 6-Leads, Body 6.5x3.5mm, Pitch 1.27mm, IPC High Density)
footprint TI-DCQ6_M (SOT223, 6-Leads, Body 6.5x3.5mm, Pitch 1.27mm, IPC Low Density)
pins: 1 EN (in) "Enable input", 2 IN (power) "Input supply voltage", 3 GND (power) "Ground", 4 OUT (power) "Regulated output voltage", 5 ~{RESET} (oc) "This terminal is the R\E\S\E\T\ output. When used with a pull-up resistor, this open-drain output provides the active low R\E\S\E\T\ signal when the regulator output voltage drops more than 5% below its nominal output (See Datasheet)", 6 GND (power) "Exposed Thermal Tab"

## TPS72515DCQG4
designator U?
Single Output Any Cap LDO, 1 A, Fixed 1.5 V Output, 1.8 to 6 V Input, with Integrated SVS, 6-pin SOT-223 (DCQ), -40 to 125 degC, Green (RoHS & no Sb/Br); Manufacturer: Texas Instruments; PartNumber: TPS72515DCQG4; Accuracy(%): 2; Fixed Output Options(V): 1.5; Iout(Max)(A): 1; Iq(Typ)(mA): 0.07; SubFamily: Single Channel LDO; Vdo(Typ)(mV): 170; Vin(Max)(V): 6; Vin(Min)(V): 1.8; DatasheetVersion: SLVS341E; PackageVersion: 4202109/D; PackageReference: DCQ6; PackageDescription: 6-Pin Plastic Small Outline, Body 3.5 x 6.5 mm, Pitch 1.27 mm; Supplier 1: Digi-Key; Supplier Part Number 1: TPS72515DCQG4-ND; Supplier 2: Farnell; Supplier Part Number 2: 1207339; Supplier 3: Newark; Supplier Part Number 3: 62M0768; Supplier 4: Newark; Supplier Part Number 4: 58K6963; Supplier 5: Mouser; Supplier Part Number 5: 595-TPS72515DCQG4; Eco-Plan: Green (RoHS & no Sb/Br); Vout Adj(Max)(V): 1.5; Vout Adj(Min)(V): 1.5; Mounting Technology: Surface Mount; ComponentLink1Description: Manufacturer URL; ComponentLink1URL: http://www.ti.com/; ComponentLink2Description: Datasheet; ComponentLink2URL: http://www.ti.com/general/docs/lit/getliterature.tsp?genericPartNumber=TPS72515&fileType=pdf; ComponentLink3Description: Package Specification; ComponentLink3URL: http://www.ti.com/litv/pdf/mpds098c
footprint TI-DCQ6_N (SOT223, 6-Leads, Body 6.5x3.5mm, Pitch 1.27mm, IPC Medium Density)
footprint TI-DCQ6_L (SOT223, 6-Leads, Body 6.5x3.5mm, Pitch 1.27mm, IPC High Density)
footprint TI-DCQ6_M (SOT223, 6-Leads, Body 6.5x3.5mm, Pitch 1.27mm, IPC Low Density)
pins: 1 EN (in) "Enable input", 2 IN (power) "Input supply voltage", 3 GND (power) "Ground", 4 OUT (power) "Regulated output voltage", 5 ~{RESET} (oc) "This terminal is the R\E\S\E\T\ output. When used with a pull-up resistor, this open-drain output provides the active low R\E\S\E\T\ signal when the regulator output voltage drops more than 5% below its nominal output (See Datasheet)", 6 GND (power) "Exposed Thermal Tab"

## TPS72515DCQR
designator U?
Single Output Any Cap LDO, 1 A, Fixed 1.5 V Output, 1.8 to 6 V Input, with Integrated SVS, 6-pin SOT-223 (DCQ), -40 to 125 degC, Green (RoHS & no Sb/Br); Manufacturer: Texas Instruments; PartNumber: TPS72515DCQR; Accuracy(%): 2; Fixed Output Options(V): 1.5; Iout(Max)(A): 1; Iq(Typ)(mA): 0.07; SubFamily: Single Channel LDO; Vdo(Typ)(mV): 170; Vin(Max)(V): 6; Vin(Min)(V): 1.8; DatasheetVersion: SLVS341E; PackageVersion: 4202109/D; PackageReference: DCQ6; PackageDescription: 6-Pin Plastic Small Outline, Body 3.5 x 6.5 mm, Pitch 1.27 mm; Supplier 1: Digi-Key; Supplier Part Number 1: 296-12692-2-ND; Supplier 2: Digi-Key; Supplier Part Number 2: 296-12692-1-ND; Supplier 3: Digi-Key; Supplier Part Number 3: 296-12692-6-ND; Supplier 4: Newark; Supplier Part Number 4: 77C0847; Supplier 5: Mouser; Supplier Part Number 5: 595-TPS72515DCQR; Eco-Plan: Green (RoHS & no Sb/Br); Vout Adj(Max)(V): 1.5; Vout Adj(Min)(V): 1.5; Mounting Technology: Surface Mount; ComponentLink1Description: Manufacturer URL; ComponentLink1URL: http://www.ti.com/; ComponentLink2Description: Datasheet; ComponentLink2URL: http://www.ti.com/general/docs/lit/getliterature.tsp?genericPartNumber=TPS72515&fileType=pdf; ComponentLink3Description: Package Specification; ComponentLink3URL: http://www.ti.com/litv/pdf/mpds098c
footprint TI-DCQ6_N (SOT223, 6-Leads, Body 6.5x3.5mm, Pitch 1.27mm, IPC Medium Density)
footprint TI-DCQ6_L (SOT223, 6-Leads, Body 6.5x3.5mm, Pitch 1.27mm, IPC High Density)
footprint TI-DCQ6_M (SOT223, 6-Leads, Body 6.5x3.5mm, Pitch 1.27mm, IPC Low Density)
pins: 1 EN (in) "Enable input", 2 IN (power) "Input supply voltage", 3 GND (power) "Ground", 4 OUT (power) "Regulated output voltage", 5 ~{RESET} (oc) "This terminal is the R\E\S\E\T\ output. When used with a pull-up resistor, this open-drain output provides the active low R\E\S\E\T\ signal when the regulator output voltage drops more than 5% below its nominal output (See Datasheet)", 6 GND (power) "Exposed Thermal Tab"

## TPS72515DCQRG4
designator U?
Single Output Any Cap LDO, 1 A, Fixed 1.5 V Output, 1.8 to 6 V Input, with Integrated SVS, 6-pin SOT-223 (DCQ), -40 to 125 degC, Green (RoHS & no Sb/Br); Manufacturer: Texas Instruments; PartNumber: TPS72515DCQRG4; Accuracy(%): 2; Fixed Output Options(V): 1.5; Iout(Max)(A): 1; Iq(Typ)(mA): 0.07; SubFamily: Single Channel LDO; Vdo(Typ)(mV): 170; Vin(Max)(V): 6; Vin(Min)(V): 1.8; DatasheetVersion: SLVS341E; PackageVersion: 4202109/D; PackageReference: DCQ6; PackageDescription: 6-Pin Plastic Small Outline, Body 3.5 x 6.5 mm, Pitch 1.27 mm; Supplier 1: Digi-Key; Supplier Part Number 1: TPS72515DCQRG4-ND; Supplier 2: Newark; Supplier Part Number 2: 33K7694; Supplier 3: Mouser; Supplier Part Number 3: 595-TPS72515DCQRG4; Eco-Plan: Green (RoHS & no Sb/Br); Vout Adj(Max)(V): 1.5; Vout Adj(Min)(V): 1.5; Mounting Technology: Surface Mount; ComponentLink1Description: Manufacturer URL; ComponentLink1URL: http://www.ti.com/; ComponentLink2Description: Datasheet; ComponentLink2URL: http://www.ti.com/general/docs/lit/getliterature.tsp?genericPartNumber=TPS72515&fileType=pdf; ComponentLink3Description: Package Specification; ComponentLink3URL: http://www.ti.com/litv/pdf/mpds098c
footprint TI-DCQ6_N (SOT223, 6-Leads, Body 6.5x3.5mm, Pitch 1.27mm, IPC Medium Density)
footprint TI-DCQ6_L (SOT223, 6-Leads, Body 6.5x3.5mm, Pitch 1.27mm, IPC High Density)
footprint TI-DCQ6_M (SOT223, 6-Leads, Body 6.5x3.5mm, Pitch 1.27mm, IPC Low Density)
pins: 1 EN (in) "Enable input", 2 IN (power) "Input supply voltage", 3 GND (power) "Ground", 4 OUT (power) "Regulated output voltage", 5 ~{RESET} (oc) "This terminal is the R\E\S\E\T\ output. When used with a pull-up resistor, this open-drain output provides the active low R\E\S\E\T\ signal when the regulator output voltage drops more than 5% below its nominal output (See Datasheet)", 6 GND (power) "Exposed Thermal Tab"

## TPS72515KTTR
designator U?
Single Output Any Cap LDO, 1 A, Fixed 1.5 V Output, 1.8 to 6 V Input, with Integrated SVS, 5-pin DDPAK (KTT), -40 to 125 degC, Green (RoHS & no Sb/Br); Manufacturer: Texas Instruments; PartNumber: TPS72515KTTR; Accuracy(%): 2; Fixed Output Options(V): 1.5; Iout(Max)(A): 1; Iq(Typ)(mA): 0.07; SubFamily: Single Channel LDO; Vdo(Typ)(mV): 170; Vin(Max)(V): 6; Vin(Min)(V): 1.8; DatasheetVersion: SLVS341E; PackageVersion: 4200577-3/F; PackageReference: KTT5; PackageDescription: 3-Pin Plastic Flange Mount, Body 10.16 x 10.34 mm, Pitch 1.7 mm; Supplier 1: Digi-Key; Supplier Part Number 1: TPS72515KTTR-ND; Supplier 2: Mouser; Supplier Part Number 2: 595-TPS72515KTTR; Eco-Plan: Green (RoHS & no Sb/Br); Vout Adj(Max)(V): 1.5; Vout Adj(Min)(V): 1.5; Mounting Technology: Surface Mount; Code_JEDEC: TO-263; ComponentLink1Description: Manufacturer URL; ComponentLink1URL: http://www.ti.com/; ComponentLink2Description: Datasheet; ComponentLink2URL: http://www.ti.com/general/docs/lit/getliterature.tsp?genericPartNumber=TPS72515&fileType=pdf; ComponentLink3Description: Package Specification; ComponentLink3URL: http://www.ti.com/litv/pdf/mpsf007e
footprint TI-KTT5_N (DPAK, 5-Leads, Body 10.16x8.925mm, Pitch 1.7mm, IPC Medium Density)
footprint TI-KTT5_L (DPAK, 5-Leads, Body 10.16x8.925mm, Pitch 1.7mm, IPC High Density)
footprint TI-KTT5_M (DPAK, 5-Leads, Body 10.16x8.925mm, Pitch 1.7mm, IPC Low Density)
pins: 1 EN (in) "Enable input", 2 IN (power) "Input supply voltage", 3 GND (power) "Ground", 4 OUT (power) "Regulated output voltage", 5 ~{RESET} (oc) "This terminal is the R\E\S\E\T\ output. When used with a pull-up resistor, this open-drain output provides the active low R\E\S\E\T\ signal when the regulator output voltage drops more than 5% below its nominal output (See Datasheet)", 6 GND (power) "Exposed Thermal Tab"

## TPS72515KTTRG3
designator U?
Single Output Any Cap LDO, 1 A, Fixed 1.5 V Output, 1.8 to 6 V Input, with Integrated SVS, 5-pin DDPAK (KTT), -40 to 125 degC, Green (RoHS & no Sb/Br); Manufacturer: Texas Instruments; PartNumber: TPS72515KTTRG3; Accuracy(%): 2; Fixed Output Options(V): 1.5; Iout(Max)(A): 1; Iq(Typ)(mA): 0.07; SubFamily: Single Channel LDO; Vdo(Typ)(mV): 170; Vin(Max)(V): 6; Vin(Min)(V): 1.8; DatasheetVersion: SLVS341E; PackageVersion: 4200577-3/F; PackageReference: KTT5; PackageDescription: 3-Pin Plastic Flange Mount, Body 10.16 x 10.34 mm, Pitch 1.7 mm; Supplier 1: Digi-Key; Supplier Part Number 1: TPS72515KTTRG3-ND; Supplier 2: Newark; Supplier Part Number 2: 73K9611; Supplier 3: Mouser; Supplier Part Number 3: 595-TPS72515KTTRG3; Eco-Plan: Green (RoHS & no Sb/Br); Vout Adj(Max)(V): 1.5; Vout Adj(Min)(V): 1.5; Mounting Technology: Surface Mount; Code_JEDEC: TO-263; ComponentLink1Description: Manufacturer URL; ComponentLink1URL: http://www.ti.com/; ComponentLink2Description: Datasheet; ComponentLink2URL: http://www.ti.com/general/docs/lit/getliterature.tsp?genericPartNumber=TPS72515&fileType=pdf; ComponentLink3Description: Package Specification; ComponentLink3URL: http://www.ti.com/litv/pdf/mpsf007e
footprint TI-KTT5_N (DPAK, 5-Leads, Body 10.16x8.925mm, Pitch 1.7mm, IPC Medium Density)
footprint TI-KTT5_L (DPAK, 5-Leads, Body 10.16x8.925mm, Pitch 1.7mm, IPC High Density)
footprint TI-KTT5_M (DPAK, 5-Leads, Body 10.16x8.925mm, Pitch 1.7mm, IPC Low Density)
pins: 1 EN (in) "Enable input", 2 IN (power) "Input supply voltage", 3 GND (power) "Ground", 4 OUT (power) "Regulated output voltage", 5 ~{RESET} (oc) "This terminal is the R\E\S\E\T\ output. When used with a pull-up resistor, this open-drain output provides the active low R\E\S\E\T\ signal when the regulator output voltage drops more than 5% below its nominal output (See Datasheet)", 6 GND (power) "Exposed Thermal Tab"

## TPS72515KTTT
designator U?
Single Output Any Cap LDO, 1 A, Fixed 1.5 V Output, 1.8 to 6 V Input, with Integrated SVS, 5-pin DDPAK (KTT), -40 to 125 degC, Green (RoHS & no Sb/Br); Manufacturer: Texas Instruments; PartNumber: TPS72515KTTT; Accuracy(%): 2; Fixed Output Options(V): 1.5; Iout(Max)(A): 1; Iq(Typ)(mA): 0.07; SubFamily: Single Channel LDO; Vdo(Typ)(mV): 170; Vin(Max)(V): 6; Vin(Min)(V): 1.8; DatasheetVersion: SLVS341E; PackageVersion: 4200577-3/F; PackageReference: KTT5; PackageDescription: 3-Pin Plastic Flange Mount, Body 10.16 x 10.34 mm, Pitch 1.7 mm; Supplier 1: Digi-Key; Supplier Part Number 1: 296-12693-2-ND; Supplier 2: Digi-Key; Supplier Part Number 2: 296-12693-1-ND; Supplier 3: Digi-Key; Supplier Part Number 3: 296-12693-6-ND; Supplier 4: Farnell; Supplier Part Number 4: 1135425; Supplier 5: Farnell; Supplier Part Number 5: 1135425RL; Supplier 6: Newark; Supplier Part Number 6: 93K0898; Supplier 7: Mouser; Supplier Part Number 7: 595-TPS72515KTTT; Eco-Plan: Green (RoHS & no Sb/Br); Vout Adj(Max)(V): 1.5; Vout Adj(Min)(V): 1.5; Mounting Technology: Surface Mount; Code_JEDEC: TO-263; ComponentLink1Description: Manufacturer URL; ComponentLink1URL: http://www.ti.com/; ComponentLink2Description: Datasheet; ComponentLink2URL: http://www.ti.com/general/docs/lit/getliterature.tsp?genericPartNumber=TPS72515&fileType=pdf; ComponentLink3Description: Package Specification; ComponentLink3URL: http://www.ti.com/litv/pdf/mpsf007e
footprint TI-KTT5_N (DPAK, 5-Leads, Body 10.16x8.925mm, Pitch 1.7mm, IPC Medium Density)
footprint TI-KTT5_L (DPAK, 5-Leads, Body 10.16x8.925mm, Pitch 1.7mm, IPC High Density)
footprint TI-KTT5_M (DPAK, 5-Leads, Body 10.16x8.925mm, Pitch 1.7mm, IPC Low Density)
pins: 1 EN (in) "Enable input", 2 IN (power) "Input supply voltage", 3 GND (power) "Ground", 4 OUT (power) "Regulated output voltage", 5 ~{RESET} (oc) "This terminal is the R\E\S\E\T\ output. When used with a pull-up resistor, this open-drain output provides the active low R\E\S\E\T\ signal when the regulator output voltage drops more than 5% below its nominal output (See Datasheet)", 6 GND (power) "Exposed Thermal Tab"

## TPS72515KTTTG3
designator U?
Single Output Any Cap LDO, 1 A, Fixed 1.5 V Output, 1.8 to 6 V Input, with Integrated SVS, 5-pin DDPAK (KTT), -40 to 125 degC, Green (RoHS & no Sb/Br); Manufacturer: Texas Instruments; PartNumber: TPS72515KTTTG3; Accuracy(%): 2; Fixed Output Options(V): 1.5; Iout(Max)(A): 1; Iq(Typ)(mA): 0.07; SubFamily: Single Channel LDO; Vdo(Typ)(mV): 170; Vin(Max)(V): 6; Vin(Min)(V): 1.8; DatasheetVersion: SLVS341E; PackageVersion: 4200577-3/F; PackageReference: KTT5; PackageDescription: 3-Pin Plastic Flange Mount, Body 10.16 x 10.34 mm, Pitch 1.7 mm; Supplier 1: Digi-Key; Supplier Part Number 1: TPS72515KTTTG3-ND; Supplier 2: Mouser; Supplier Part Number 2: 595-TPS72515KTTTG3; Eco-Plan: Green (RoHS & no Sb/Br); Vout Adj(Max)(V): 1.5; Vout Adj(Min)(V): 1.5; Mounting Technology: Surface Mount; Code_JEDEC: TO-263; ComponentLink1Description: Manufacturer URL; ComponentLink1URL: http://www.ti.com/; ComponentLink2Description: Datasheet; ComponentLink2URL: http://www.ti.com/general/docs/lit/getliterature.tsp?genericPartNumber=TPS72515&fileType=pdf; ComponentLink3Description: Package Specification; ComponentLink3URL: http://www.ti.com/litv/pdf/mpsf007e
footprint TI-KTT5_N (DPAK, 5-Leads, Body 10.16x8.925mm, Pitch 1.7mm, IPC Medium Density)
footprint TI-KTT5_L (DPAK, 5-Leads, Body 10.16x8.925mm, Pitch 1.7mm, IPC High Density)
footprint TI-KTT5_M (DPAK, 5-Leads, Body 10.16x8.925mm, Pitch 1.7mm, IPC Low Density)
pins: 1 EN (in) "Enable input", 2 IN (power) "Input supply voltage", 3 GND (power) "Ground", 4 OUT (power) "Regulated output voltage", 5 ~{RESET} (oc) "This terminal is the R\E\S\E\T\ output. When used with a pull-up resistor, this open-drain output provides the active low R\E\S\E\T\ signal when the regulator output voltage drops more than 5% below its nominal output (See Datasheet)", 6 GND (power) "Exposed Thermal Tab"

## TPS72516DCQ
designator U?
Single Output Any Cap LDO, 1 A, Fixed 1.6 V Output, 1.8 to 6 V Input, with Integrated SVS, 6-pin SOT-223 (DCQ), -40 to 125 degC, Green (RoHS & no Sb/Br); Manufacturer: Texas Instruments; PartNumber: TPS72516DCQ; Accuracy(%): 2; Fixed Output Options(V): 1.8; Iout(Max)(A): 1; Iq(Typ)(mA): 0.07; SubFamily: Single Channel LDO; Vdo(Typ)(mV): 170; Vin(Max)(V): 6; Vout Adj(Max)(V): 1.6; DatasheetVersion: SLVS341E; PackageVersion: 4202109/D; PackageReference: DCQ6; PackageDescription: 6-Pin Plastic Small Outline, Body 3.5 x 6.5 mm, Pitch 1.27 mm; Supplier 1: Digi-Key; Supplier Part Number 1: 296-14393-5-ND; Supplier 2: Mouser; Supplier Part Number 2: 595-TPS72516DCQ; Eco-Plan: Green (RoHS & no Sb/Br); Vin(Min)(V): 1.8; Vout Adj(Min)(V): 1.6; Mounting Technology: Surface Mount; ComponentLink1Description: Manufacturer URL; ComponentLink1URL: http://www.ti.com/; ComponentLink2Description: Datasheet; ComponentLink2URL: http://www.ti.com/general/docs/lit/getliterature.tsp?genericPartNumber=TPS72516&fileType=pdf; ComponentLink3Description: Package Specification; ComponentLink3URL: http://www.ti.com/litv/pdf/mpds098c
footprint TI-DCQ6_N (SOT223, 6-Leads, Body 6.5x3.5mm, Pitch 1.27mm, IPC Medium Density)
footprint TI-DCQ6_L (SOT223, 6-Leads, Body 6.5x3.5mm, Pitch 1.27mm, IPC High Density)
footprint TI-DCQ6_M (SOT223, 6-Leads, Body 6.5x3.5mm, Pitch 1.27mm, IPC Low Density)
pins: 1 EN (in) "Enable input", 2 IN (power) "Input supply voltage", 3 GND (power) "Ground", 4 OUT (power) "Regulated output voltage", 5 ~{RESET} (oc) "This terminal is the R\E\S\E\T\ output. When used with a pull-up resistor, this open-drain output provides the active low R\E\S\E\T\ signal when the regulator output voltage drops more than 5% below its nominal output (See Datasheet)", 6 GND (power) "Exposed Thermal Tab"